# Altium schematic symbol library HYM8563.Schlib: 1 symbol
Pins are listed as number, name and electrical type; pins without a type are passive.

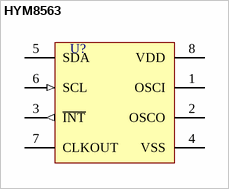
[diagram p0: symbol HYM8563]

## HYM8563
designator U?
I2C Real Time Clock/Calendar
pins: 1 OSCI, 2 OSCO, 3 ~{INT} (out), 4 VSS (power), 5 SDA, 6 SCL (in), 7 CLKOUT, 8 VDD (power)